# Altium integrated library pren-et_DC.IntLib: 13 symbols
Pins are listed as number, name and electrical type; pins without a type are passive.

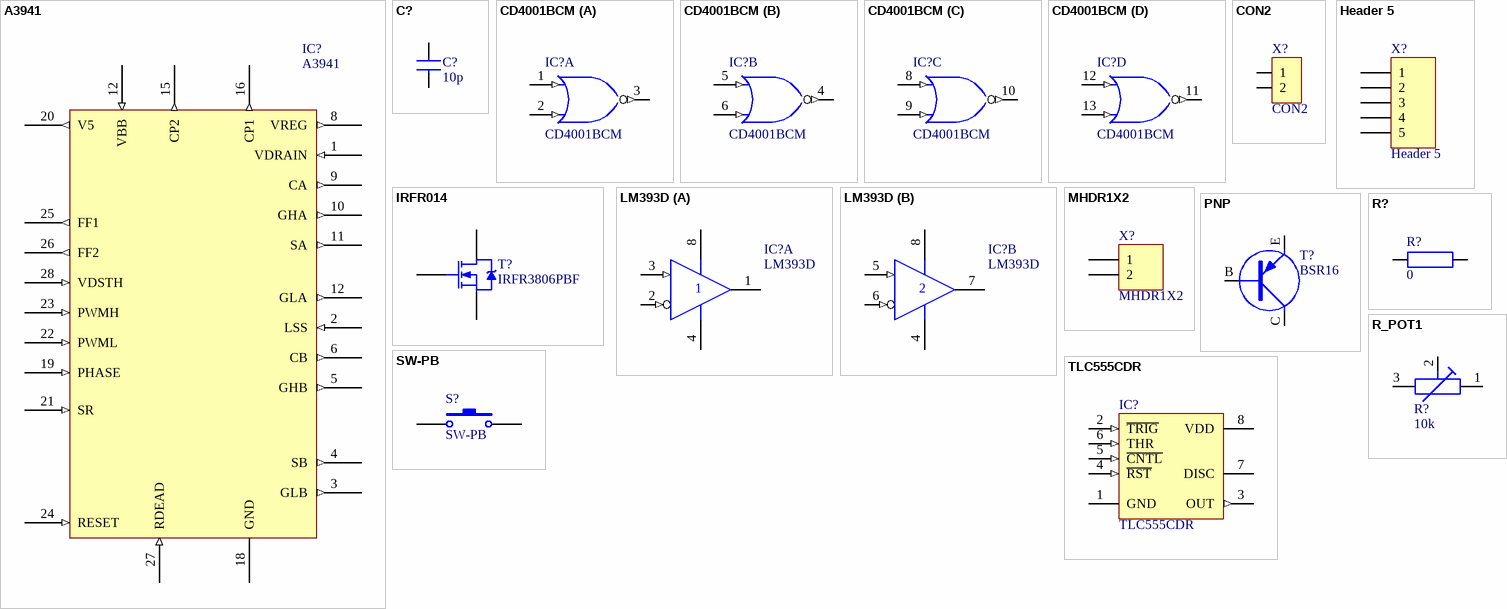
[diagram p0: symbols A3941 to TLC555CDR]

## A3941
designator IC?
A3941 SOIC IC
footprint A3941 (A3941 SOIC IC)
pins: 1 VDRAIN (in) "High-side common drain", 2 LSS (in) "Low-side common source", 3 GLB (out) "Low-side gate drive B", 4 SB (out) "Load connection B", 5 GHB (out) "High-side gate drive B", 6 CB (out) "Bootstrap capacitor B", 7 VREG (out) hidden to VREG "Regulated 13 V", 8 VREG (out) "Regulated 13 V", 9 CA (out) "Bootstrap capacitor A", 10 GHA (out) "High-side gate drive A", 11 SA (out) "Load connection A", 12 VBB (in) "Main supply", 12 GLA (out) "Low-side gate drive A", 13 VBB (in) hidden to VBB "Main supply", 15 CP2 (out) "Pump capacitor", 16 CP1 (out) "Pump capacitor", 17 GND (power) hidden to GND "Ground", 18 GND (power) "Ground", 19 PHASE (in) "Phase control input", 20 V5 (out) "5 V regulator", 21 SR (in) "SR control input", 22 PWML (in) "Low-side PWM control input", 23 PWMH (in) "High-side PWM control input", 24 RESET (in) "Reset input", 25 FF1 (out) "Fault Flag 1 output", 26 FF2 (out) "Fault Flag 2 output", 27 RDEAD (in) "Dead time setting input", 28 VDSTH (in) "VDS threshold level Input", 29 GND (power) hidden to GND "Ground"

## C?
designator C?, comment 10p
Normaler Kondensator
footprint 0805
pins: 1, 2

## CD4001BCM
designator IC?
Quad 2-Input NOR Buffered B series Gate, 14-Pin SOIC; IC_Technology: C; Published: 17-Jul-2002; LatestRevisionDate: 13-Apr-2006; LatestRevisionNote: IPC-7351 Footprint Added.; DatasheetVersion: Jan-1999; PackageVersion: 2000; PackageReference: M14A; Publisher: Altium Limited; PackageDescription: 14-Pin Small Outline Integrated Circuit 1.27 mm Pitch; Code_IPC: SOIC127P600-14; ComponentLink1Description: Manufacturer Link; ComponentLink1URL: http://www.fairchildsemi.com/; ComponentLink2Description: Datasheet; ComponentLink2URL: http://www.fairchildsemi.com/ds/CD%2FCD4001BC.pdf
footprint M14A_N (SOIC, 14-Leads, Body 8.6x3.9mm, Pitch 1.27mm, IPC Medium Density)
footprint M14A_L (SOIC, 14-Leads, Body 8.6x3.9mm, Pitch 1.27mm, IPC High Density)
footprint M14A_M (SOIC, 14-Leads, Body 8.6x3.9mm, Pitch 1.27mm, IPC Low Density)
3D model M14A (14-Pin Small Outline Integrated Circuit 1.27 mm Pitch)
simulation model FSC_4001 (SIMCODE)
pins on every part: 7 GND (power) hidden to GND, 14 VDD (power) hidden to VDD
part A pins: 1 A (in), 2 B (in), 3 J (out)
part B pins: 4 J (out), 5 A (in), 6 B (in)
part C pins: 8 A (in), 9 B (in), 10 J (out)
part D pins: 11 J (out), 12 A (in), 13 B (in)

## CON2
designator X?
footprint POWER2
pins: 1, 2

## Header 5
designator X?
Header, 5-Pin; LatestRevisionDate: 17-Jul-2002; LatestRevisionNote: Re-released for DXP Platform.; Publisher: Altium Limited
footprint HDR1X5 (Connector; Header; 5 Position)
signal-integrity model Connector
pins: 1, 2, 3, 4, 5

## IRFR014
designator T?, comment IRFR3806PBF
N-Channel Power MOSFET; Note: Pin 2 is trimmed and is electrically connected to Drain.; Published: 8-Jun-2000; LatestRevisionDate: 20-Nov-2009; LatestRevisionNote: IPC-7351 Footprint Added.; DatasheetVersion: PD-9.7014; PackageVersion: Feb-2003; PackageReference: TO-252AA; Publisher: Altium Limited; PackageDescription: 3-Pin HEXFET Package 2.28 mm Pitch, 9.9 mm Lead Span; Code_JEDEC: TO-252-AA; ComponentLink1Description: Manufacturer Link; ComponentLink1URL: http://www.irf.com/; ComponentLink2Description: Datasheet; ComponentLink2URL: http://www.irf.com/product-info/datasheets/data/irfr014.pdf
footprint TO-252AA_N (D-PAK, 4-Leads, Body 6.1x6.5mm, Pitch 2.28mm, Lead Span 9.9mm, IPC Medium Density)
footprint TO-252AA_L (D-PAK, 4-Leads, Body 6.1x6.5mm, Pitch 2.28mm, Lead Span 9.9mm, IPC High Density)
footprint TO-252AA_M (D-PAK, 4-Leads, Body 6.1x6.5mm, Pitch 2.28mm, Lead Span 9.9mm, IPC Low Density)
simulation model IRFR014 (SUBCKT)
pins: 1 G, 3 S, 4 D

## LM393D
designator IC?
Dual Differential Comparator; Published: 15-Apr-2002; LatestRevisionDate: 13-Apr-2006; LatestRevisionNote: IPC-7351 Footprint Added.; DatasheetVersion: Nov-1988; PackageVersion: Jan-1998; PackageReference: D008; Publisher: Altium Limited; PackageDescription: 8-Pin Small Outline Integrated Circuit 1.27 mm Pitch; Code_IPC: SOIC127P600-8; ComponentLink1Description: Manufacturer Link; ComponentLink1URL: http://www.ti.com/; ComponentLink2Description: Datasheet; ComponentLink2URL: http://www-s.ti.com/sc/ds/lm193.pdf
footprint D008_N (SOIC, 8-Leads, Body 4.9x3.9mm, Pitch 1.27mm, IPC Medium Density)
footprint D008_L (SOIC, 8-Leads, Body 4.9x3.9mm, Pitch 1.27mm, IPC High Density)
footprint D008_M (SOIC, 8-Leads, Body 4.9x3.9mm, Pitch 1.27mm, IPC Low Density)
3D model D008 (8-Pin Small Outline Integrated Circuit 1.27 mm Pitch)
pins on every part: 4 GND (power), 8 VCC (power)
part A pins: 1 OUT (oc), 2 IN- (in), 3 IN+ (in)
part B pins: 5 IN+ (in), 6 IN- (in), 7 OUT (oc)

## MHDR1X2
designator X?
Header, 2-Pin; LatestRevisionDate: 17-Jul-2002; LatestRevisionNote: Re-released for DXP Platform.; Publisher: Altium Limited
footprint MHDR1X2 (Connector; Header; 2 Position)
signal-integrity model Connector
pins: 1, 2

## PNP
designator T?, comment BSR16
footprint SOT-23 (SOT-23; 3 Leads; Body 3.0 x 2.5 mm, inc. leads (LxW max), Alternate Lead Configuration)
pins: B, C, E

## R?
designator R?, comment 0
Normaler Widerstand
footprint 0805
pins: 1, 2

## R_POT1
designator R?, comment 10k
footprint POT2
pins: 1, 2, 3

## SW-PB
designator S?
Switch; Published: 24-Mar-1999; LatestRevisionDate: 17-Jul-2002; LatestRevisionNote: Re-released for DXP Platform.; PackageReference: SPST-2; Publisher: Altium Limited; PackageDescription: Switch; 2 Leads
footprint TASTER
pins: 1, 2

## TLC555CDR
designator IC?
LinCMOS Timer; Published: 15-Apr-2002; LatestRevisionDate: 13-Apr-2006; LatestRevisionNote: IPC-7351 Footprint Added.; DatasheetVersion: Oct-1988; PackageVersion: Jan-1998; PackageReference: D008; Publisher: Altium Limited; PackageDescription: 8-Pin Small Outline Integrated Circuit 1.27 mm Pitch; Code_IPC: SOIC127P600-8; ComponentLink1Description: Manufacturer Link; ComponentLink1URL: http://www.ti.com/; ComponentLink2Description: Datasheet; ComponentLink2URL: http://www-s.ti.com/sc/ds/tlc555.pdf
footprint D008_N (SOIC, 8-Leads, Body 4.9x3.9mm, Pitch 1.27mm, IPC Medium Density)
footprint D008_L (SOIC, 8-Leads, Body 4.9x3.9mm, Pitch 1.27mm, IPC High Density)
footprint D008_M (SOIC, 8-Leads, Body 4.9x3.9mm, Pitch 1.27mm, IPC Low Density)
3D model D008 (8-Pin Small Outline Integrated Circuit 1.27 mm Pitch)
pins: 1 GND (power), 2 ~{TRIG} (in), 3 OUT (out), 4 ~{RST} (in), 5 ~{CNTL} (in), 6 THR (in), 7 DISC (oc), 8 VDD (power)